# Altium schematic symbol library SCH - POWER - LINEAR VREG - TI TPS74001_DGK_8.SchLib: 1 symbol
Pins are listed as number, name and electrical type; pins without a type are passive.

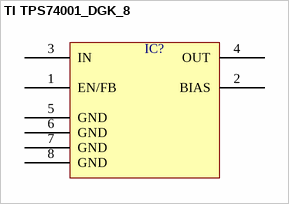
[diagram p0: symbol TI TPS74001_DGK_8]

## TI TPS74001_DGK_8
designator IC?  (value not drawn)
pins: 1 EN/FB, 2 BIAS, 3 IN, 4 OUT, 5 GND, 6 GND, 7 GND, 8 GND